# EAGLE library part 74*04 (library IC_Logic)
Hex INVERTER
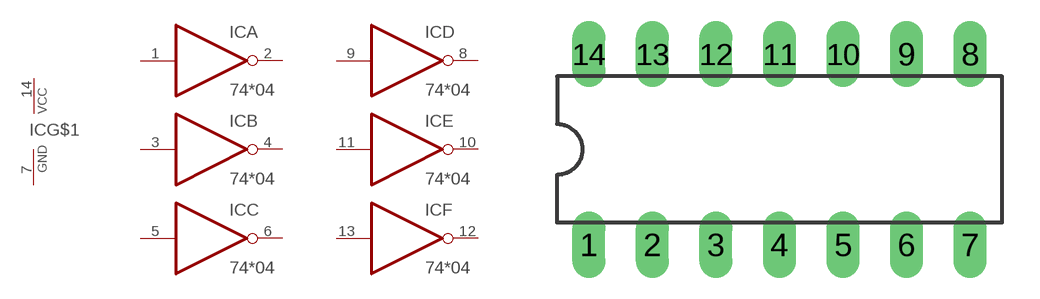
[diagram p21: symbol with the pads of DIL14; footprint DIL14]

Designator prefix IC; gates A=7404 B=7404 C=7404 D=7404 E=7404 F=7404 G$1=PWRN

## 7404N (CATEGORY: IC_Logic; SUB-CATEGORY: Inverter; VALUE: 7404), 74ALS04N (CATEGORY: IC_Logic; SUB-CATEGORY: Inverter; VALUE: 7404), 74AS04N (CATEGORY: IC_Logic; SUB-CATEGORY: Inverter; VALUE: 7404), 74LS04N (CATEGORY: IC_Logic; SUB-CATEGORY: Inverter; VALUE: 7404), 74S04N (CATEGORY: IC_Logic; SUB-CATEGORY: Inverter; VALUE: 7404)  [DIL14]
1  A:I  in
2  A:O  out
3  B:I  in
4  B:O  out
5  C:I  in
6  C:O  out
7  G$1:GND  pwr
8  D:O  out
9  D:I  in
10  E:O  out
11  E:I  in
12  F:O  out
13  F:I  in
14  G$1:VCC  pwr

## Footprint DIL14 (pad centres in mm)
Dual In Line Package
drill 0.813 long: 1 -7.62,-3.81; 2 -5.08,-3.81; 3 -2.54,-3.81; 4 0,-3.81; 5 2.54,-3.81; 6 5.08,-3.81; 7 7.62,-3.81; 8 7.62,3.81; 9 5.08,3.81; 10 2.54,3.81; 11 0,3.81; 12 -2.54,3.81; 13 -5.08,3.81; 14 -7.62,3.81